# Altium footprint library InMotion.PcbLib: 1 footprints
Each footprint in its own frame and in the unit in brackets; x right, y up, seen from the top. Pads: shape width x height; smd on the part's side, far side on the other; paste and mask are expansions set on the pad; w line width, h text height; cw(c..) or ccw(c..) is an arc to the next point about the centre after c.
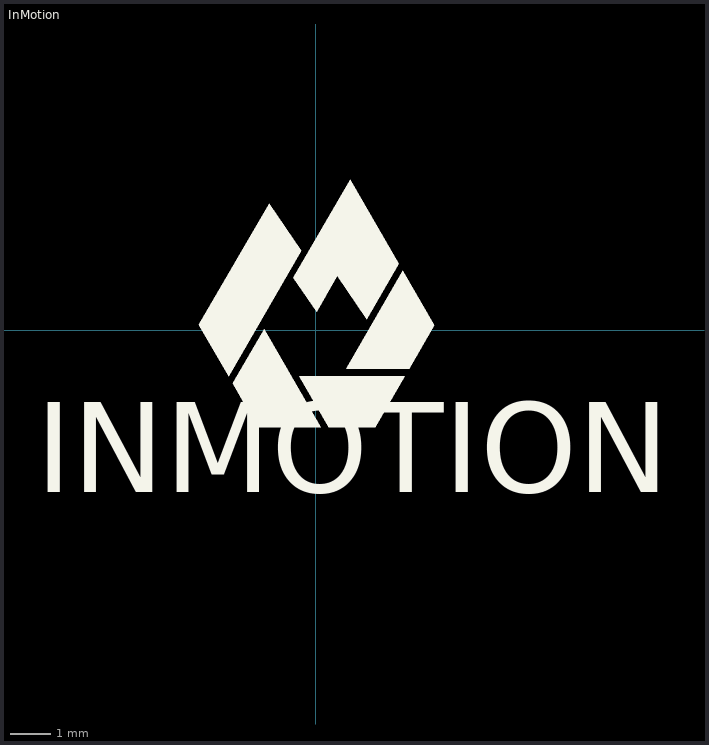
[diagram p0: the footprint, top view; thin cyan lines are the x and y axes]

## InMotion [mm]
Top Overlay:
  region: -2.882,0.135 -2.15,-1.133 -0.367,1.955 -1.155,3.108
  region: -0.555,1.283 0.013,0.451 0.522,1.333 1.247,0.272 2.032,1.631 0.839,3.697
  region: 2.134,1.455 0.741,-0.957 2.29,-0.957 2.908,0.114
  region: 2.188,-1.133 -0.407,-1.133 0.318,-2.389 1.463,-2.389
  region: -1.278,0.021 0.114,-2.389 -1.427,-2.389 -2.048,-1.313
  text "INMOTION" at -6.893,-4.719 h3.8